# Altium footprint library SE08A.PcbLib: 1 footprints
Each footprint in its own frame and in the unit in brackets; x right, y up, seen from the top. Pads: shape width x height; smd on the part's side, far side on the other; paste and mask are expansions set on the pad; w line width, h text height; cw(c..) or ccw(c..) is an arc to the next point about the centre after c.
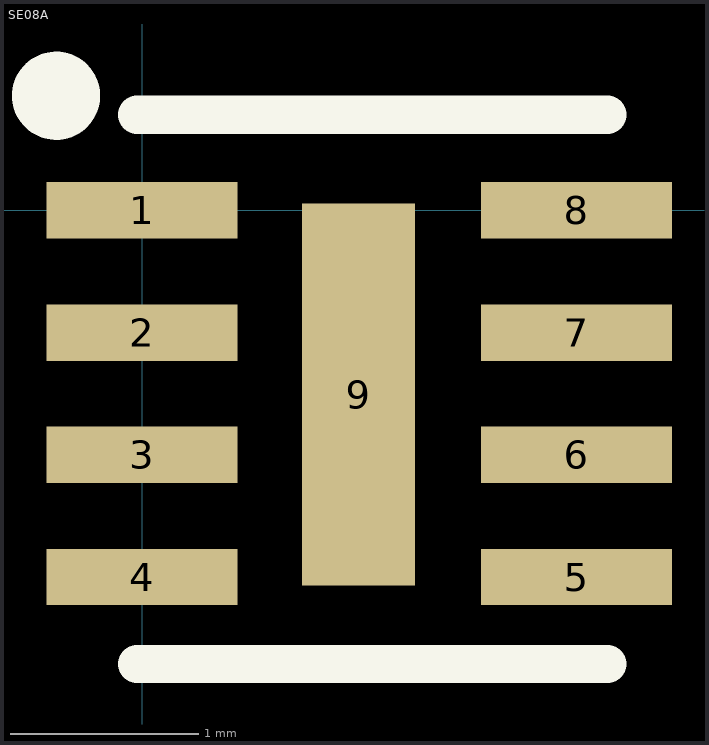
[diagram p0: the footprint, top view; thin cyan lines are the x and y axes]

## SE08A [mm]
pads (9):
  rect 1.016x0.3 smd: 1(0,0) 2(0,-0.65) 3(0,-1.3) 4(0,-1.95) 5(2.311,-1.95) 6(2.311,-1.3) 7(2.311,-0.65) 8(2.311,0)
  rect 0.6x2.032 smd: 9(1.152,-0.98)
Top Overlay:
  circle w0.254: c-0.457,0.61 r0.108
  lines w0.203: -0.025,-2.413 2.475,-2.413 ; -0.025,0.508 2.475,0.508
3D body: height 0.76, standoff 0.75, extent 1.222,-2.375 1.902,-1.935
3D body: height 1.15, standoff 0.75, extent 0.322,-1.805 1.982,-0.145
3D body: height 0.75, standoff 0, extent -0.098,-2.475 2.402,0.525